# Altium schematic symbol library 电源参考.SchLib: 3 symbols
Pins are listed as number, name and electrical type; pins without a type are passive.

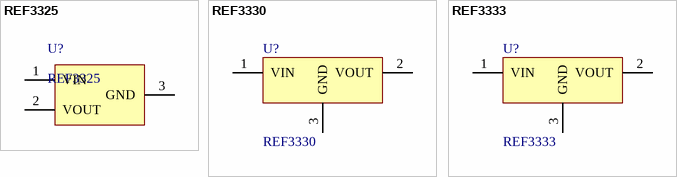
[diagram p0: symbols REF3325 to REF3333]

## REF3325
designator U?
TI 2.5V电压基准
footprint SOT23-3L (SOT23, 3-Leads, Body 2.9x1.3mm, Pitch 0.95mm, Lead Span 2.3mm - Reverse Pinning, IPC High Density)
pins: 1 VIN, 2 VOUT, 3 GND

## REF3330
designator U?
TI 3.0V'电压基准
footprint SOT23-3L (SOT23, 3-Leads, Body 2.9x1.3mm, Pitch 0.95mm, Lead Span 2.3mm - Reverse Pinning, IPC High Density)
pins: 1 VIN, 2 VOUT, 3 GND

## REF3333
designator U?
TI 3.3V'电压基准
footprint SOT23-3L (SOT23, 3-Leads, Body 2.9x1.3mm, Pitch 0.95mm, Lead Span 2.3mm - Reverse Pinning, IPC High Density)
pins: 1 VIN, 2 VOUT, 3 GND